# EAGLE library part HEADER-2X5 (library uo_C_SE_Library)
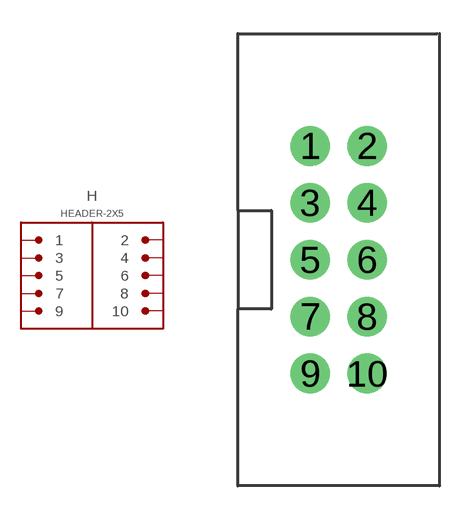
[diagram p0: symbol with the pads of PTH-0.1-2X5-SHROUDED; footprint PTH-0.1-2X5-SHROUDED]

Designator prefix H

## HEADER-2X5-PTH-0.1-SHROUDED (MANUFACTURERPARTNUMBER: 302-S101)  [PTH-0.1-2X5-SHROUDED]
1  1
2  2
3  3
4  4
5  5
6  6
7  7
8  8
9  9
10  10

## Footprint PTH-0.1-2X5-SHROUDED (pad centres in mm)
drill 1.016 pad 1.778: 1 -1.27,5.08; 2 1.27,5.08; 3 -1.27,2.54; 4 1.27,2.54; 5 -1.27,0; 6 1.27,0; 7 -1.27,-2.54; 8 1.27,-2.54; 9 -1.27,-5.08; 10 1.27,-5.08